# EAGLE library part 6871XX14522_68711014522 (library WR-FPC)
WR-FPC 0.50 mm SMT ZIF Horizontal Bottom Contact KIND PROPERTIES Pitch 0.5 mm MATERIAL PROPERTIES Insulator Material LCP Contact Material Phosphor Bronze Contact Plating 100 (µ") Tin over 50 (µ") Nickel Contact Type Stamped Solder Tabs Brass <https://www.we-online.com/catalog/media/o32870v209%20Family_WR-FPC_6871xx14522.jpg> Details see: https://www.we-online.com/catalog/en/FPC_0_5_SMT_ZIF_HORIZONTAL_BOTTOM_CONTACT_6871XX14522/ Updated by Ella Wu 2020-08-26 2020(C) Wurth Elektronik
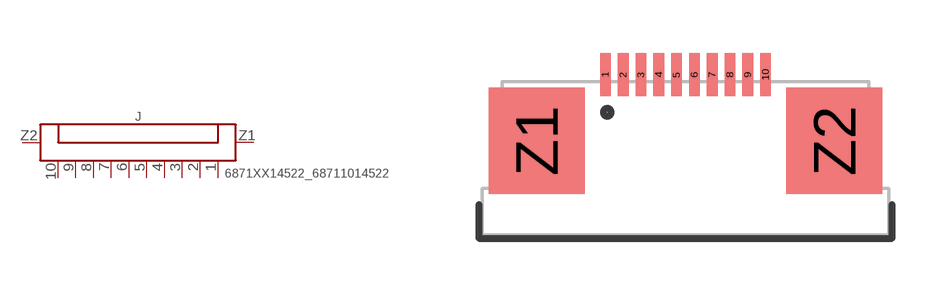
[diagram p37: symbol with the pads of 68711014522; footprint 68711014522]

Designator prefix J

## 6871XX14522_68711014522 (CONTACT-RESISTANCE: 20Ohm; DATASHEET-URL: https://www.we-online.com/catalog/datasheet/68711014522.pdf; IR: 0.5A; L: 11.4mm; PACKAGING: Tape and Reel; PART-NUMBER: 68711014522; PINS: 10; PITCH: 0.5mm; TYPE: Horizontal; VALUE: 68711014522; WORKING-VOLTAGE: 50V(AC))  [68711014522]
1  1  pas
2  2  pas
3  3  pas
4  4  pas
5  5  pas
6  6  pas
7  7  pas
8  8  pas
9  9  pas
10  10  pas
Z1  Z1  pas
Z2  Z2  pas

## Footprint 68711014522 (pad centres in mm)
WR-FPC 0.50 mm SMT ZIF Horizontal Bottom Contact , 10 Pins
smd 0.3 x 1.2: 1 -2.25,2.35; 2 -1.75,2.35; 3 -1.25,2.35; 4 -0.75,2.35; 5 -0.25,2.35; 6 0.25,2.35; 7 0.75,2.35; 8 1.25,2.35; 9 1.75,2.35; 10 2.25,2.35
smd 2.7 x 3: Z1 -4.18,0.49; Z2 4.18,0.49